# EAGLE library part APR33A1_C2.0 (library template)
The aPR33A series C2.0 is specially designed for simple key trigger, user can record and playback the message averagely for 1, 2, 4 or 8 voice message(s) by switch, It is suitable in simple interface or need to limit the length of single message, e.g. toys, leave messages system, answering machine etc. Meanwhile, this mode provides the power-management system. Users can let the chip enter power-down mode when unused. It can effectively reduce electric current consuming to 15uA and increase the using time in any projects powered by batteries.
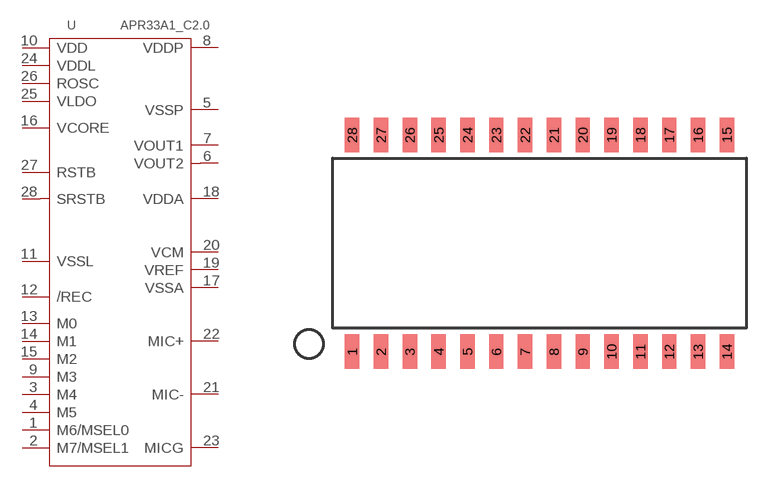
[diagram p37: symbol with the pads of SOP28; footprint SOP28]

Designator prefix U

## APR33A1_C2.0'APR33A1-C2.0'  [SOP28]
1  M6/MSEL0
2  M7/MSEL1
3  M4
4  M5
5  VSSP
6  VOUT2
7  VOUT1
8  VDDP
9  M3
10  VDD
11  VSSL
12  /REC
13  M0
14  M1
15  M2
16  VCORE
17  VSSA
18  VDDA
19  VREF
20  VCM
21  MIC-
22  MIC+
23  MICG
24  VDDL
25  VLDO
26  ROSC
27  RSTB
28  SRSTB

## Footprint SOP28 (pad centres in mm)
smd 0.635 x 1.524: 1 -8.255,-4.775; 2 -6.985,-4.775; 3 -5.715,-4.775; 4 -4.445,-4.775; 5 -3.175,-4.775; 6 -1.905,-4.775; 7 -0.635,-4.775; 8 0.635,-4.775; 9 1.905,-4.775; 10 3.175,-4.775; 11 4.445,-4.775; 12 5.715,-4.775; 13 6.985,-4.775; 14 8.255,-4.775; 15 8.255,4.775; 16 6.985,4.775; 17 5.715,4.775; 18 4.445,4.775; 19 3.175,4.775; 20 1.905,4.775; 21 0.635,4.775; 22 -0.635,4.775; 23 -1.905,4.775; 24 -3.175,4.775; 25 -4.445,4.775; 26 -5.715,4.775; 27 -6.985,4.775; 28 -8.255,4.775